# EAGLE library part SENSOR_BOARD_I_SOLAR (library sensors)
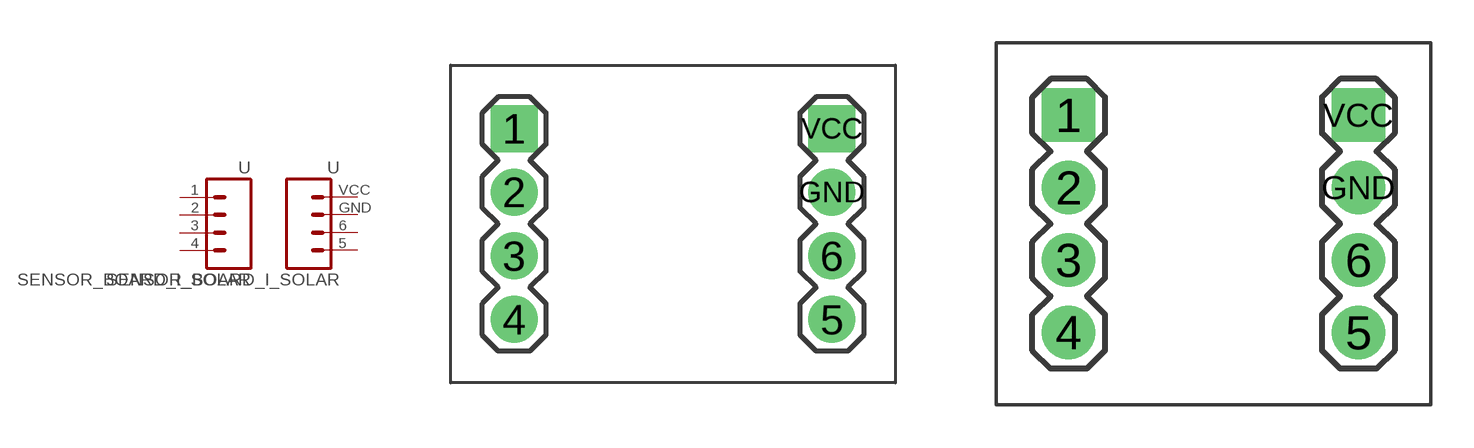
[diagram p9: symbol with the pads of SENSOR_BOARD_GEN; footprints SENSOR_BOARD_GEN, SENSOR_BOARD_GEN_SMALL]

Designator prefix -

## SENSOR_BOARD_I_SOLAR_LARGE  [SENSOR_BOARD_GEN]
1  OA+  pas
2  OA-  pas
3  I_SOLAR+  pas
4  OAO  pas
5  5  pas
6  I_SOLAR-  pas
GND  GND  pas
VCC  VCC  pas

## SENSOR_BOARD_I_SOLAR_SMALL  [SENSOR_BOARD_GEN_SMALL]
Pads as for SENSOR_BOARD_GEN

## Footprint SENSOR_BOARD_GEN (pad centres in mm)
drill 1.016 pad 1.88 square: 1 2.54,10.16; VCC 15.24,10.16
drill 1.016 pad 1.88: 2 2.54,7.62; 3 2.54,5.08; 4 2.54,2.54; 5 15.24,2.54; 6 15.24,5.08; GND 15.24,7.62

## Footprint SENSOR_BOARD_GEN_SMALL (pad centres in mm)
drill 1.016 pad 1.88 square: 1 2.54,10.16; VCC 12.7,10.16
drill 1.016 pad 1.88: 2 2.54,7.62; 3 2.54,5.08; 4 2.54,2.54; 5 12.7,2.54; 6 12.7,5.08; GND 12.7,7.62